# EAGLE library part WE-PSPA_1208 (library WE-PSPA)
WE-PSPA Push Pull & Gate Drive Transformer Characteristics Surface mount AEC-Q200 Variety of turn ratios Output voltages from 5 V up to 23 V Operating temperature:-40 °C up to +125 ºC Automotive approved Applications As a Gate Drive Transformator Transformator for Push Pull DC/DC Converter For isolated interfaces RS 485, CAN <https://www.we-online.com/components/media/o718702v209%20family-we-pspa-78931812xxx.jpg> Details see: www.we-online.com/components/products/WE-PSPA_PUSH_PULL_TRANSFORMER <www.we-online.com/catalog/WE-PSPA_PUSH_PULL_TRANSFORMER/?utm_source=eagle_model&utm_medium=description_link&utm_campaign=eisos_eagle> Created by Ella 2022-12-05 2022(C) Würth Elektronik
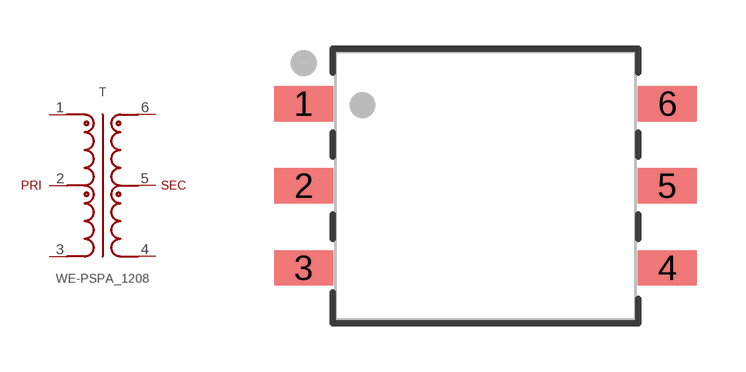
[diagram p0: symbol with the pads of WE-PSPA_1208; footprint WE-PSPA_1208]

Designator prefix T

## WE-PSPA_1208_78931812505 (DATASHEET-URL: https://www.we-online.com/redexpert/spec/78931812505?ae; HEIGHT: 4.1mm; IOUT1: 750 mA; L: 86 uH; LENGTH: 12.6mm; LS: 600 nH; MOUNT: SMT; N: 1:1.13; PART-NUMBER: 78931812505; RDC1: 55 mohm; RDC2: 55 mohm; RDC3: 60 mohm; RDC4: 60 mohm; SIZE: 1208; TEST-CONDITION-N: (1-3) : (6-4); VALUE: 1:1.13; VIN: 5 V; VOLTAGE-TIME: 9.5 Vus; VOUT1: 5 V; VT: 2500 V (AC); WIDTH: 8.3mm), WE-PSPA_1208_78931812512 (DATASHEET-URL: https://www.we-online.com/redexpert/spec/78931812512?ae; HEIGHT: 4.1mm; IOUT1: 310 mA; L: 86 uH; LENGTH: 12.6mm; LS: 300 nH; MOUNT: SMT; N: 1:2.5; PART-NUMBER: 78931812512; RDC1: 60 mohm; RDC2: 60 mohm; RDC3: 125 mohm; RDC4: 125 mohm; SIZE: 1208; TEST-CONDITION-N: (1-3) : (6-4); VALUE: 1:2.5; VIN: 5 V; VOLTAGE-TIME: 9.5 Vus; VOUT1: 12 V; VT: 2500 V (AC); WIDTH: 8.3mm), WE-PSPA_1208_78931812515 (DATASHEET-URL: https://www.we-online.com/redexpert/spec/78931812515?ae; HEIGHT: 4.1mm; IOUT1: 250 mA; L: 86 uH; LENGTH: 12.6mm; LS: 300 nH; MOUNT: SMT; N: 1:3.13; PART-NUMBER: 78931812515; RDC1: 60 mohm; RDC2: 60 mohm; RDC3: 230 mohm; RDC4: 230 mohm; SIZE: 1208; TEST-CONDITION-N: (1-3) : (6-4); VALUE: 1:3.13; VIN: 5 V; VOLTAGE-TIME: 9.5 Vus; VOUT1: 15 V; VT: 2500 V (AC); WIDTH: 8.3mm), WE-PSPA_1208_78931812518 (DATASHEET-URL: https://www.we-online.com/redexpert/spec/78931812518?ae; HEIGHT: 4.1mm; IOUT1: 210 mA; L: 86 uH; LENGTH: 12.6mm; LS: 300 nH; MOUNT: SMT; N: 1:3.75; PART-NUMBER: 78931812518; RDC1: 60 mohm; RDC2: 60 mohm; RDC3: 280 mohm; RDC4: 280 mohm; SIZE: 1208; TEST-CONDITION-N: (1-3) : (6-4); VALUE: 1:3.75; VIN: 5 V; VOLTAGE-TIME: 9.5 Vus; VOUT1: 18 V; VT: 2500 V (AC); WIDTH: 8.3mm), WE-PSPA_1208_78931812523 (DATASHEET-URL: https://www.we-online.com/redexpert/spec/78931812523?ae; HEIGHT: 4.1mm; IOUT1: 165 mA; L: 86 uH; LENGTH: 12.6mm; LS: 300 nH; MOUNT: SMT; N: 1:4.75; PART-NUMBER: 78931812523; RDC1: 65 mohm; RDC2: 65 mohm; RDC3: 350 mohm; RDC4: 350 mohm; SIZE: 1208; TEST-CONDITION-N: (1-3) : (6-4); VALUE: 1:4.75; VIN: 5 V; VOLTAGE-TIME: 9.5 Vus; VOUT1: 23 V; VT: 2500 V (AC); WIDTH: 8.3mm)  [WE-PSPA_1208]
1  1  pas
2  2  pas
3  3  pas
4  4  pas
5  5  pas
6  6  pas

## Footprint WE-PSPA_1208 (pad centres in mm)
WE-PSPA Push Pull & Gate Drive Transformer Size: 1208, SMT, 6pins LxWxH=12.6x8.3x4.1mm
smd 1.83 x 1.09: 1 -5.62,2.54; 2 -5.62,0; 3 -5.62,-2.54; 4 5.62,-2.54; 5 5.62,0; 6 5.62,2.54